# Altium footprint library Разъемы-mm.PcbLib: 96 footprints (part 2 of 6)
Each footprint in its own frame and in the unit in brackets; x right, y up, seen from the top. Pads: shape width x height; smd on the part's side, far side on the other; paste and mask are expansions set on the pad; w line width, h text height; cw(c..) or ccw(c..) is an arc to the next point about the centre after c.
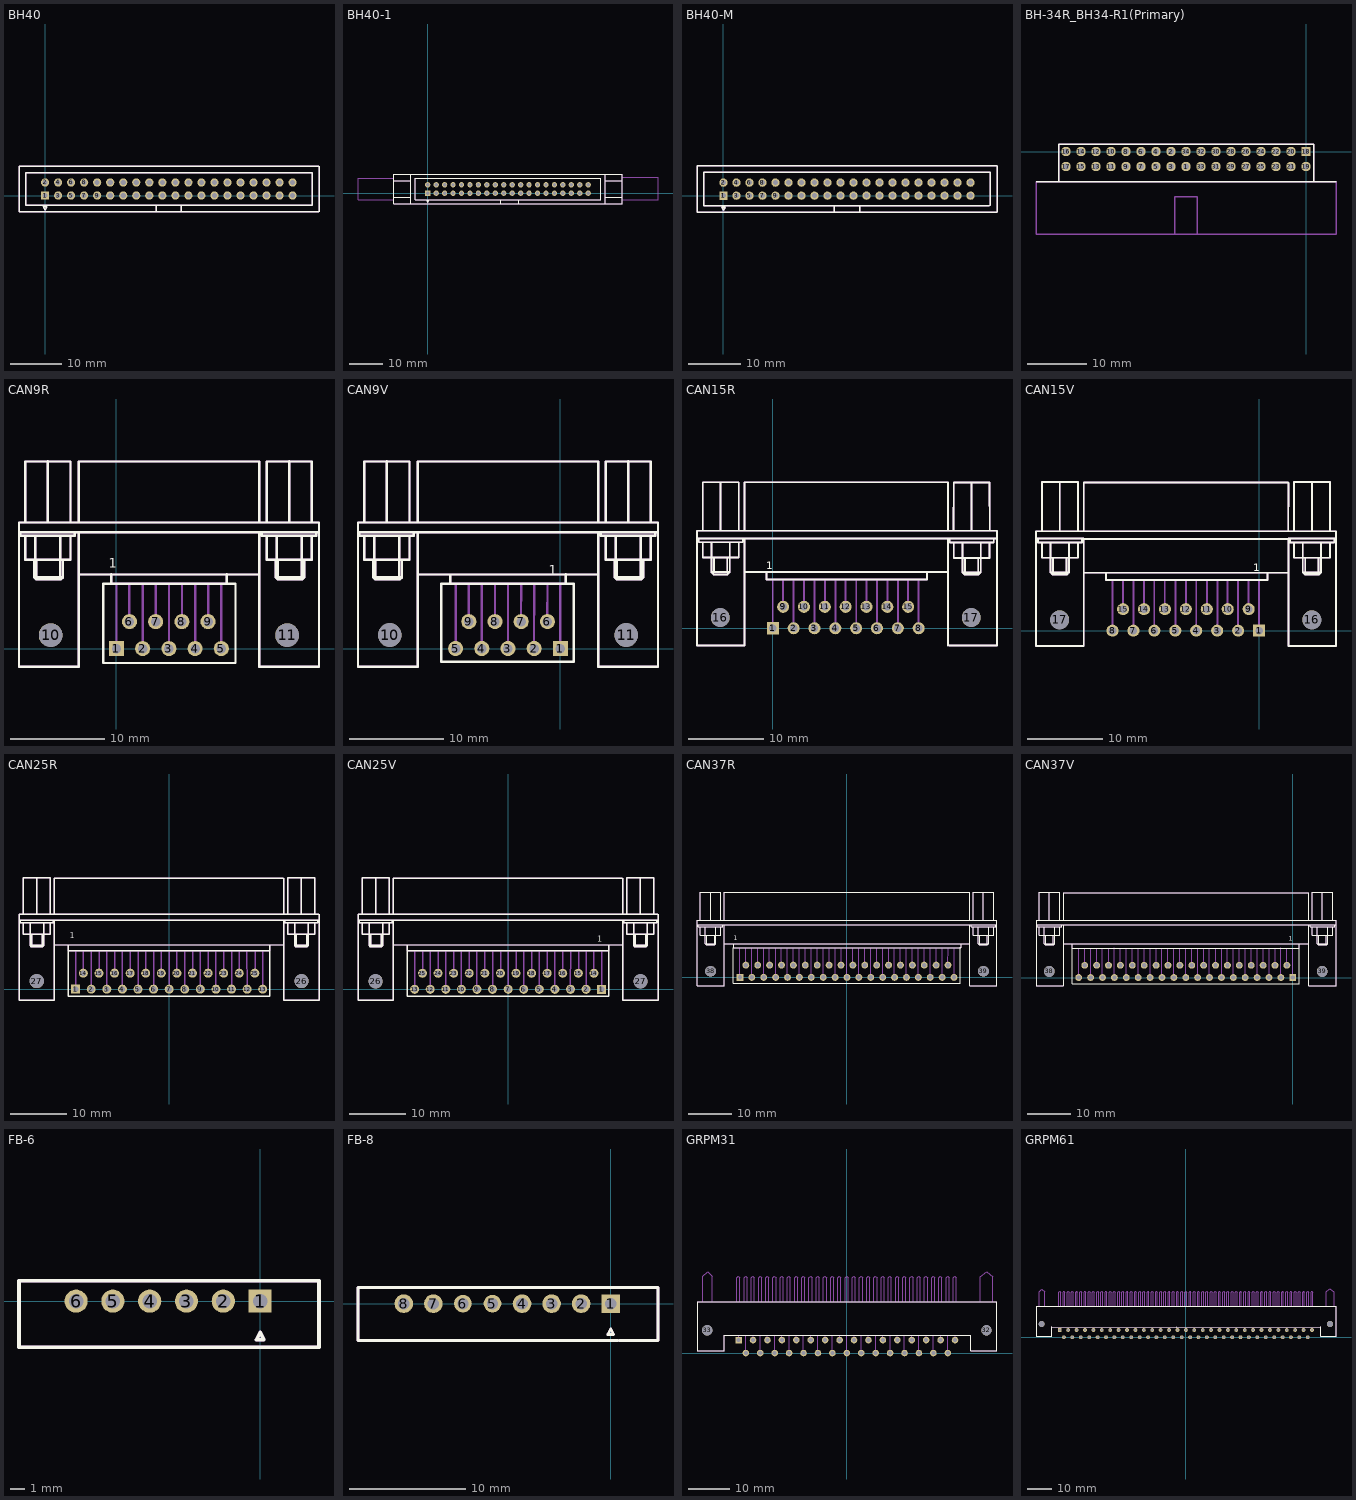
[diagram p1: the footprints below, top view; thin cyan lines are the x and y axes]

## BH40 [mm]
pads (40):
  rect 1.6x1.6 hole 1: 1(0,0)
  round 1.6 hole 1: 2(0,2.54) 3(2.54,0) 4(2.54,2.54) 5(5.08,0) 6(5.08,2.54) 7(7.62,0) 8(7.62,2.54) 9(10.16,0) 10(10.16,2.54) 11(12.7,0) 12(12.7,2.54) 13(15.24,0) 14(15.24,2.54) 15(17.78,0) 16(17.78,2.54) 17(20.32,0) 18(20.32,2.54) 19(22.86,0) 20(22.86,2.54) 21(25.4,0) 22(25.4,2.54) 23(27.94,0) 24(27.94,2.54) 25(30.48,0) 26(30.48,2.54) 27(33.02,0) 28(33.02,2.54) 29(35.56,0) 30(35.56,2.54) 31(38.1,0) 32(38.1,2.54) 33(40.64,0) 34(40.64,2.54) 35(43.18,0) 36(43.18,2.54) 37(45.72,0) 38(45.72,2.54) 39(48.26,0) 40(48.26,2.54)
Top Overlay:
  lines w0.25: 21.653,-3.175 21.653,-1.905 ; 26.543,-3.175 26.543,-1.905 ; 52.07,-1.905 51.117,-1.905 50.8,-1.905 1.905,-1.905 -3.81,-1.905 -3.81,4.445 17.145,4.445 41.275,4.445 52.07,4.445 ; 52.133,-1.905 52.133,4.445 ; 53.34,-3.175 40.64,-3.175 30.48,-3.175 -5.08,-3.175 -5.08,5.715 6.985,5.715 18.415,5.715 53.34,5.715 ; 53.404,-3.175 53.404,5.715 ; -0.318,-2.222 0.318,-2.222 0,-2.857 -0.318,-2.222
Mechanical 1:
  lines w0.25: 21.653,-3.175 21.653,-1.905 ; 26.543,-3.175 26.543,-1.905 ; 52.07,-1.905 51.117,-1.905 50.8,-1.905 1.905,-1.905 -3.81,-1.905 -3.81,4.445 17.145,4.445 41.275,4.445 52.07,4.445 ; 52.133,-1.905 52.133,4.445 ; 53.34,-3.175 40.64,-3.175 30.48,-3.175 -5.08,-3.175 -5.08,5.715 6.985,5.715 18.415,5.715 53.34,5.715 ; 53.404,-3.175 53.404,5.715 ; -0.318,-2.222 0.318,-2.222 0,-2.857 -0.318,-2.222
  text "2" at -3.136,1.694 h0.79
  text "1" at -3.136,-0.846 h0.79

## BH40-1 [mm]
pads (40):
  rect 1.6x1.6 hole 1: 1(0,0)
  round 1.6 hole 1: 2(0,2.54) 3(2.54,0) 4(2.54,2.54) 5(5.08,0) 6(5.08,2.54) 7(7.62,0) 8(7.62,2.54) 9(10.16,0) 10(10.16,2.54) 11(12.7,0) 12(12.7,2.54) 13(15.24,0) 14(15.24,2.54) 15(17.78,0) 16(17.78,2.54) 17(20.32,0) 18(20.32,2.54) 19(22.86,0) 20(22.86,2.54) 21(25.4,0) 22(25.4,2.54) 23(27.94,0) 24(27.94,2.54) 25(30.48,0) 26(30.48,2.54) 27(33.02,0) 28(33.02,2.54) 29(35.56,0) 30(35.56,2.54) 31(38.1,0) 32(38.1,2.54) 33(40.64,0) 34(40.64,2.54) 35(43.18,0) 36(43.18,2.54) 37(45.72,0) 38(45.72,2.54) 39(48.26,0) 40(48.26,2.54)
Top Overlay:
  lines w0.254: -10.16,-1.27 -5.08,-1.27 ; -10.16,3.81 -5.08,3.81 ; 21.907,-3.175 21.907,-1.905 ; 27.305,-3.175 27.305,-1.905 ; 52.08,-1.89 51.117,-1.905 50.8,-1.905 1.905,-1.905 -3.81,-1.905 -3.81,4.445 17.145,4.445 41.275,4.445 52.08,4.44 ; 52.092,-1.905 52.092,4.445 ; 53.045,5.715 53.362,5.715 ; 53.362,-1.27 58.442,-1.27 ; 53.362,3.81 58.442,3.81 ; 53.975,5.715 18.415,5.715 6.985,5.715 -5.08,5.715 ; 54.292,-3.175 40.64,-3.175 30.48,-3.175 -5.08,-3.175 ; -5.08,-3.175 -5.08,5.715 ; -5.08,-3.175 -10.16,-3.175 -10.16,5.715 -5.08,5.715 ; 53.362,5.715 58.442,5.715 58.442,-3.175 53.362,-3.175 53.362,5.715 ; -0.318,-2.222 0.318,-2.222 0,-2.857 -0.318,-2.222
Mechanical 1:
  lines w0.254: -10.16,-1.27 -5.08,-1.27 ; -10.16,3.81 -5.08,3.81 ; 21.907,-3.175 21.907,-1.905 ; 27.305,-3.175 27.305,-1.905 ; 52.08,-1.89 51.117,-1.905 50.8,-1.905 1.905,-1.905 -3.81,-1.905 -3.81,4.445 17.145,4.445 41.275,4.445 52.08,4.44 ; 52.092,-1.905 52.092,4.445 ; 53.045,5.715 53.362,5.715 ; 53.362,-1.27 58.442,-1.27 ; 53.362,3.81 58.442,3.81 ; 53.975,5.715 18.415,5.715 6.985,5.715 -5.08,5.715 ; 54.292,-3.175 40.64,-3.175 30.48,-3.175 -5.08,-3.175 ; -20.955,-1.905 -10.16,-1.905 -20.955,-1.905 ; -20.955,-1.905 -20.955,4.445 ; -20.955,-1.905 -20.955,4.445 ; -20.955,4.445 -10.16,4.445 -20.955,4.445 ; -5.08,-3.175 -5.08,5.715 ; -5.08,-3.175 -10.16,-3.175 -10.16,5.715 -5.08,5.715 ; 53.362,5.715 58.442,5.715 58.442,-3.175 53.362,-3.175 53.362,5.715 ; 69.237,-1.905 58.442,-1.905 69.237,-1.905 ; 69.237,-1.905 69.237,4.763 ; 69.237,-1.905 69.237,4.763 ; 69.237,4.763 58.442,4.763 69.237,4.763 ; -0.318,-2.222 0.318,-2.222 0,-2.857 -0.318,-2.222
  text "2" at -3.136,1.694 h0.79
  text "1" at -3.136,-0.846 h0.79

## BH40-M [mm]
pads (40):
  rect 1.6x1.6 hole 1: 1(0,0)
  round 1.6 hole 1: 2(0,2.5) 3(2.5,0) 4(2.5,2.5) 5(5,0) 6(5,2.5) 7(7.5,0) 8(7.5,2.5) 9(10,0) 10(10,2.5) 11(12.5,0) 12(12.5,2.5) 13(15,0) 14(15,2.5) 15(17.5,0) 16(17.5,2.5) 17(20,0) 18(20,2.5) 19(22.5,0) 20(22.5,2.5) 21(25,0) 22(25,2.5) 23(27.5,0) 24(27.5,2.5) 25(30,0) 26(30,2.5) 27(32.5,0) 28(32.5,2.5) 29(35,0) 30(35,2.5) 31(37.5,0) 32(37.5,2.5) 33(40,0) 34(40,2.5) 35(42.5,0) 36(42.5,2.5) 37(45,0) 38(45,2.5) 39(47.5,0) 40(47.5,2.5)
Top Overlay:
  lines w0.25: 21.344,-3.175 21.344,-1.905 ; 26.233,-3.175 26.233,-1.905 ; 51.3,4.45 41.275,4.445 17.145,4.445 -3.81,4.445 -3.81,-1.905 1.905,-1.905 50.8,-1.905 51.117,-1.905 51.31,-1.89 ; 51.313,-1.875 51.313,4.475 ; 52.54,5.72 18.415,5.715 6.985,5.715 -5.08,5.715 -5.08,-3.175 30.48,-3.175 40.64,-3.175 52.58,-3.17 ; 52.583,-3.175 52.583,5.715 ; -0.318,-2.222 0.318,-2.222 0,-2.857 -0.318,-2.222
Mechanical 1:
  lines w0.25: 21.344,-3.175 21.344,-1.905 ; 26.233,-3.175 26.233,-1.905 ; 51.3,4.45 41.275,4.445 17.145,4.445 -3.81,4.445 -3.81,-1.905 1.905,-1.905 50.8,-1.905 51.117,-1.905 51.31,-1.89 ; 51.313,-1.875 51.313,4.475 ; 52.54,5.72 18.415,5.715 6.985,5.715 -5.08,5.715 -5.08,-3.175 30.48,-3.175 40.64,-3.175 52.58,-3.17 ; 52.583,-3.175 52.583,5.715 ; -0.318,-2.222 0.318,-2.222 0,-2.857 -0.318,-2.222
  text "2" at -3.136,1.694 h0.79
  text "1" at -3.136,-0.846 h0.79

## BH-34R_BH34-R1(Primary) [mm]
pads (34):
  round 1.6 hole 1: 1(-20.32,-2.54) 2(-22.86,0) 3(-22.86,-2.54) 4(-25.4,0) 5(-25.4,-2.54) 6(-27.94,0) 7(-27.94,-2.54) 8(-30.48,0) 9(-30.48,-2.54) 10(-33.02,0) 11(-33.02,-2.54) 12(-35.56,0) 13(-35.56,-2.54) 14(-38.1,0) 15(-38.1,-2.54) 16(-40.64,0) 17(-40.64,-2.54) 19(0,-2.54) 20(-2.54,0) 21(-2.54,-2.54) 22(-5.08,0) 23(-5.08,-2.54) 24(-7.62,0) 25(-7.62,-2.54) 26(-10.16,0) 27(-10.16,-2.54) 28(-12.7,0) 29(-12.7,-2.54) 30(-15.24,0) 31(-15.24,-2.54) 32(-17.78,0) 33(-17.78,-2.54) 34(-20.32,0)
  rect 1.6x1.6 hole 1: 18(0,0)
Top Overlay:
  lines w0.25: -45.72,-5.08 5.08,-5.08 ; -41.91,-5.08 -41.91,1.27 1.27,1.27 1.27,-5.08
Mechanical 1:
  lines w0.25: -41.91,-5.08 -41.91,1.27 1.27,1.27 1.27,-5.08 ; -22.225,-13.97 -22.225,-7.62 -18.415,-7.62 -18.415,-13.97 ; -45.72,-13.97 5.08,-13.97 5.08,-5.08 -45.72,-5.08 -45.72,-13.97

## CAN9R [mm]
pads (11):
  rect 1.6x1.6 hole 1: 1(0,0)
  round 1.6 hole 1: 2(2.769,0) 3(5.537,0) 4(8.306,0) 5(11.074,0) 6(1.372,2.845) 7(4.14,2.845) 8(6.909,2.845) 9(9.677,2.845)
  round 2.5 hole 2.5: 10(-6.96,1.422) 11(18.034,1.422)
Top Overlay:
  lines w0.25: -10.301,12.305 -4.001,12.305 ; -10.148,12.305 -10.148,11.924 -4.408,11.924 -4.408,12.305 ; -9.64,11.924 -9.64,9.384 -4.865,9.384 -4.865,11.924 ; -9.64,13.321 -9.64,19.772 -4.865,19.772 -4.865,13.321 ; -8.675,9.358 -8.675,7.529 ; -8.573,9.358 -8.573,11.924 ; -8.446,7.529 -8.446,9.333 ; -7.253,13.321 -7.253,19.798 ; -6.084,9.358 -6.059,9.384 ; -5.932,7.555 -5.932,9.358 ; -5.932,9.333 -5.932,11.949 ; -5.652,9.384 -5.652,7.529 ; -4.001,7.834 15.099,7.834 ; -4.001,13.321 -4.001,19.772 15.099,19.772 15.099,13.321 ; -0.547,7.885 -0.547,6.869 11.645,6.869 11.645,7.885 ; -0.508,6.858 -1.397,6.858 -1.397,6.731 -1.397,-1.524 -0.635,-1.524 12.573,-1.524 12.573,-1.27 12.573,6.858 11.684,6.858 ; 15.353,12.305 15.353,11.924 21.094,11.924 21.094,12.305 ; 15.861,11.924 15.861,9.384 20.637,9.384 20.637,11.924 ; 15.861,13.321 15.861,19.772 20.637,19.772 20.637,13.321 ; 16.827,9.358 16.827,7.529 ; 16.928,9.358 16.928,11.924 ; 17.055,7.529 17.055,9.333 ; 18.249,13.321 18.249,19.798 ; 19.417,9.358 19.443,9.384 ; 19.57,7.555 19.57,9.358 ; 19.57,9.333 19.57,11.949 ; 19.849,9.384 19.849,7.529 ; 21.399,12.305 15.099,12.305 ; -8.675,7.529 -8.446,7.301 -5.881,7.301 -5.652,7.529 ; -8.675,7.529 -5.652,7.529 ; -4.001,12.305 15.099,12.305 ; -4.001,12.305 -4.001,-1.919 -10.301,-1.919 -10.301,13.321 21.399,13.321 21.399,-1.919 15.099,-1.919 15.099,12.305 ; 16.827,7.529 19.849,7.529 ; 16.827,7.529 17.055,7.301 19.621,7.301 19.849,7.529
  text "1" at -0.802,8.529 h1.02
Mechanical 1:
  lines w0.25: -10.301,12.305 -4.001,12.305 ; -10.148,12.305 -10.148,11.924 -4.408,11.924 -4.408,12.305 ; -9.64,11.924 -9.64,9.384 -4.865,9.384 -4.865,11.924 ; -9.64,13.321 -9.64,19.772 -4.865,19.772 -4.865,13.321 ; -8.675,9.358 -8.675,7.529 ; -8.573,9.358 -8.573,11.924 ; -8.446,7.529 -8.446,9.333 ; -7.253,13.321 -7.253,19.798 ; -6.084,9.358 -6.059,9.384 ; -5.932,7.555 -5.932,9.358 ; -5.932,9.333 -5.932,11.949 ; -5.652,9.384 -5.652,7.529 ; -4.001,7.834 15.099,7.834 ; -4.001,13.321 -4.001,19.772 15.099,19.772 15.099,13.321 ; -0.547,7.885 -0.547,6.869 11.645,6.869 11.645,7.885 ; 0.006,0.011 0.006,6.869 ; 1.363,2.937 1.363,6.874 ; 2.765,0.016 2.765,6.874 ; 4.147,2.927 4.147,6.864 ; 5.549,0.011 5.549,6.869 ; 6.921,2.922 6.921,6.859 ; 8.308,0.021 8.308,6.879 ; 9.68,2.937 9.68,6.874 ; 11.072,0.006 11.072,6.864 ; 15.353,12.305 15.353,11.924 21.094,11.924 21.094,12.305 ; 15.861,11.924 15.861,9.384 20.637,9.384 20.637,11.924 ; 15.861,13.321 15.861,19.772 20.637,19.772 20.637,13.321 ; 16.827,9.358 16.827,7.529 ; 16.928,9.358 16.928,11.924 ; 17.055,7.529 17.055,9.333 ; 18.249,13.321 18.249,19.798 ; 19.417,9.358 19.443,9.384 ; 19.57,7.555 19.57,9.358 ; 19.57,9.333 19.57,11.949 ; 19.849,9.384 19.849,7.529 ; 21.399,12.305 15.099,12.305 ; -8.675,7.529 -8.446,7.301 -5.881,7.301 -5.652,7.529 ; -8.675,7.529 -5.652,7.529 ; -4.001,12.305 15.099,12.305 ; -4.001,12.305 -4.001,-1.919 -10.301,-1.919 -10.301,13.321 21.399,13.321 21.399,-1.919 15.099,-1.919 15.099,12.305 ; 16.827,7.529 19.849,7.529 ; 16.827,7.529 17.055,7.301 19.621,7.301 19.849,7.529
  text "1" at -0.802,8.529 h1.02

## CAN9V [mm]
pads (11):
  rect 1.6x1.6 hole 1: 1(0,0)
  round 1.6 hole 1: 2(-2.769,0) 3(-5.537,0) 4(-8.306,0) 5(-11.074,0) 6(-1.372,2.845) 7(-4.14,2.845) 8(-6.909,2.845) 9(-9.677,2.845)
  round 2.5 hole 2.5: 10(-18.034,1.422) 11(6.96,1.422)
Top Overlay:
  lines w0.25: -21.385,12.297 -15.085,12.297 ; -21.232,12.297 -21.232,11.916 -15.492,11.916 -15.492,12.297 ; -20.724,11.916 -20.724,9.376 -15.949,9.376 -15.949,11.916 ; -20.724,13.313 -20.724,19.764 -15.949,19.764 -15.949,13.313 ; -19.759,9.35 -19.759,7.521 ; -19.657,9.35 -19.657,11.916 ; -19.53,7.521 -19.53,9.325 ; -18.337,13.313 -18.337,19.79 ; -17.168,9.35 -17.143,9.376 ; -17.016,7.547 -17.016,9.35 ; -17.016,9.325 -17.016,11.941 ; -16.736,9.376 -16.736,7.521 ; -15.085,7.826 4.015,7.826 ; -15.085,13.313 -15.085,19.764 4.015,19.764 4.015,13.313 ; -11.684,6.858 -12.573,6.858 -12.573,-1.397 -12.319,-1.397 1.397,-1.397 1.397,6.858 0.635,6.858 ; -11.635,7.791 -11.631,6.861 0.561,6.861 0.561,7.877 ; 4.269,12.297 4.269,11.916 10.01,11.916 10.01,12.297 ; 4.777,11.916 4.777,9.376 9.553,9.376 9.553,11.916 ; 4.777,13.313 4.777,19.764 9.553,19.764 9.553,13.313 ; 5.743,9.35 5.743,7.521 ; 5.844,9.35 5.844,11.916 ; 5.971,7.521 5.971,9.325 ; 7.165,13.313 7.165,19.79 ; 8.333,9.35 8.359,9.376 ; 8.486,7.547 8.486,9.35 ; 8.486,9.325 8.486,11.941 ; 8.765,9.376 8.765,7.521 ; 10.315,12.297 4.015,12.297 ; -19.759,7.521 -19.53,7.293 -16.965,7.293 -16.736,7.521 ; -19.759,7.521 -16.736,7.521 ; -15.085,12.297 4.015,12.297 ; -15.085,12.297 -15.085,-1.927 -21.385,-1.927 -21.385,13.313 10.315,13.313 10.315,-1.927 4.015,-1.927 4.015,12.297 ; 5.743,7.521 8.765,7.521 ; 5.743,7.521 5.971,7.293 8.537,7.293 8.765,7.521
  text "1" at -1.218,7.81 h1.02
Mechanical 1:
  lines w0.25: -21.385,12.297 -15.085,12.297 ; -21.232,12.297 -21.232,11.916 -15.492,11.916 -15.492,12.297 ; -20.724,11.916 -20.724,9.376 -15.949,9.376 -15.949,11.916 ; -20.724,13.313 -20.724,19.764 -15.949,19.764 -15.949,13.313 ; -19.759,9.35 -19.759,7.521 ; -19.657,9.35 -19.657,11.916 ; -19.53,7.521 -19.53,9.325 ; -18.337,13.313 -18.337,19.79 ; -17.168,9.35 -17.143,9.376 ; -17.016,7.547 -17.016,9.35 ; -17.016,9.325 -17.016,11.941 ; -16.736,9.376 -16.736,7.521 ; -15.085,7.826 4.015,7.826 ; -15.085,13.313 -15.085,19.764 4.015,19.764 4.015,13.313 ; -11.635,7.791 -11.631,6.861 0.561,6.861 0.561,7.877 ; -11.074,0.138 -11.071,6.845 ; -9.681,3.02 -9.676,6.851 ; -8.304,0.122 -8.297,6.857 ; -6.912,3.02 -6.908,6.847 ; -5.535,0.122 -5.535,6.861 ; -4.158,3.02 -4.15,6.867 ; -2.781,0.106 -2.777,6.855 ; -1.372,2.972 -1.366,6.867 ; -0.011,0.122 -0.008,6.857 ; 4.269,12.297 4.269,11.916 10.01,11.916 10.01,12.297 ; 4.777,11.916 4.777,9.376 9.553,9.376 9.553,11.916 ; 4.777,13.313 4.777,19.764 9.553,19.764 9.553,13.313 ; 5.743,9.35 5.743,7.521 ; 5.844,9.35 5.844,11.916 ; 5.971,7.521 5.971,9.325 ; 7.165,13.313 7.165,19.79 ; 8.333,9.35 8.359,9.376 ; 8.486,7.547 8.486,9.35 ; 8.486,9.325 8.486,11.941 ; 8.765,9.376 8.765,7.521 ; 10.315,12.297 4.015,12.297 ; -19.759,7.521 -19.53,7.293 -16.965,7.293 -16.736,7.521 ; -19.759,7.521 -16.736,7.521 ; -15.085,12.297 4.015,12.297 ; -15.085,12.297 -15.085,-1.927 -21.385,-1.927 -21.385,13.313 10.315,13.313 10.315,-1.927 4.015,-1.927 4.015,12.297 ; 5.743,7.521 8.765,7.521 ; 5.743,7.521 5.971,7.293 8.537,7.293 8.765,7.521
  text "1" at -1.218,7.81 h1.02

## CAN15R [mm]
pads (17):
  rect 1.6x1.6 hole 1: 1(0,0)
  round 1.6 hole 1: 2(2.769,0) 3(5.537,0) 4(8.306,0) 5(11.074,0) 6(13.843,0) 7(16.612,0) 8(19.38,0) 9(1.372,2.845) 10(4.14,2.845) 11(6.909,2.845) 12(9.677,2.845) 13(12.446,2.845) 14(15.215,2.845) 15(17.983,2.845)
  round 2.5 hole 2.5: 16(-6.985,1.422) 17(26.365,1.422)
Top Overlay:
  lines w0.25: -10.07,12.95 29.786,12.949 29.786,-2.291 23.487,-2.291 ; -10.066,11.933 -3.767,11.933 -3.767,-2.291 -10.066,-2.291 -10.066,12.949 ; -9.837,11.933 -9.837,11.425 -3.995,11.425 -3.995,11.933 ; -9.304,11.425 -9.304,9.393 -4.529,9.393 -4.529,11.425 ; -9.304,12.949 -9.304,19.401 -4.529,19.401 -4.529,12.949 ; -8.161,11.425 -8.161,7.463 ; -7.831,7.463 -7.831,9.393 ; -6.942,12.949 -6.94,19.37 ; -6.053,7.463 -6.053,9.393 ; -5.722,11.425 -5.722,7.463 ; -4.047,11.933 23.487,11.933 29.786,11.933 ; -3.767,12.949 -3.767,19.401 ; -3.76,19.39 23.26,19.39 ; -3.74,7.46 23.26,7.46 ; -0.85,7.46 -0.846,6.498 20.49,6.498 20.48,7.43 ; 23.277,-2.331 23.277,11.893 ; 23.277,19.361 23.28,13 ; 23.506,11.893 23.506,11.385 29.348,11.385 29.348,11.893 ; 24.03,12.97 24.039,19.361 28.814,19.361 28.82,13.02 ; 24.039,11.385 24.039,9.353 28.814,9.353 28.814,11.385 ; 25.182,11.385 25.182,7.423 ; 25.512,7.423 25.512,9.353 ; 26.39,19.35 26.401,13.059 ; 27.29,7.423 27.29,9.353 ; 27.62,11.385 27.62,7.423 ; -8.161,7.463 -7.856,7.158 -6.027,7.158 -5.722,7.463 ; -8.161,7.463 -5.722,7.463 ; 25.182,7.423 27.62,7.423 ; 25.182,7.423 25.487,7.118 27.316,7.118 27.62,7.423
  text "1" at -0.843,7.827 h1.02
Top Solder:
  lines w0.25: -0.762,6.477 -1.524,6.477 -1.524,-1.524 20.955,-1.524 20.955,6.477 20.574,6.477
Mechanical 1:
  lines w0.25: -10.07,12.95 29.786,12.949 29.786,-2.291 23.487,-2.291 ; -10.066,11.933 -3.767,11.933 -3.767,-2.291 -10.066,-2.291 -10.066,12.949 ; -9.837,11.933 -9.837,11.425 -3.995,11.425 -3.995,11.933 ; -9.304,11.425 -9.304,9.393 -4.529,9.393 -4.529,11.425 ; -9.304,12.949 -9.304,19.401 -4.529,19.401 -4.529,12.949 ; -8.161,11.425 -8.161,7.463 ; -7.831,7.463 -7.831,9.393 ; -6.942,12.949 -6.94,19.37 ; -6.053,7.463 -6.053,9.393 ; -5.722,11.425 -5.722,7.463 ; -4.047,11.933 23.487,11.933 29.786,11.933 ; -3.767,12.949 -3.767,19.401 ; -3.76,19.39 23.26,19.39 ; -3.74,7.46 23.26,7.46 ; -0.85,7.46 -0.846,6.498 20.49,6.498 20.48,7.43 ; -0.01,0.254 -0.01,6.477 ; 1.36,3.05 1.36,6.467 ; 2.76,0.259 2.76,6.482 ; 4.13,3.05 4.13,6.467 ; 5.54,0.249 5.54,6.472 ; 6.92,3.05 6.92,6.467 ; 8.315,0.264 8.315,6.487 ; 9.68,3.07 9.68,6.487 ; 11.08,0.264 11.08,6.487 ; 12.44,3.05 12.44,6.467 ; 13.85,0.254 13.85,6.477 ; 15.22,3.09 15.22,6.507 ; 16.62,0.254 16.62,6.477 ; 17.98,3.08 17.98,6.497 ; 19.38,0.243 19.38,6.466 ; 23.277,-2.331 23.277,11.893 ; 23.277,19.361 23.28,13 ; 23.506,11.893 23.506,11.385 29.348,11.385 29.348,11.893 ; 24.03,12.97 24.039,19.361 28.814,19.361 28.82,13.02 ; 24.039,11.385 24.039,9.353 28.814,9.353 28.814,11.385 ; 25.182,11.385 25.182,7.423 ; 25.512,7.423 25.512,9.353 ; 26.39,19.35 26.401,13.059 ; 27.29,7.423 27.29,9.353 ; 27.62,11.385 27.62,7.423 ; -8.161,7.463 -5.722,7.463 ; -8.161,7.463 -7.856,7.158 -6.027,7.158 -5.722,7.463 ; 25.182,7.423 27.62,7.423 ; 25.182,7.423 25.487,7.118 27.316,7.118 27.62,7.423
  text "1" at -0.763,7.807 h1.02

## CAN15V [mm]
pads (17):
  rect 1.6x1.6 hole 1: 1(0,0)
  round 1.6 hole 1: 2(-2.769,0) 3(-5.537,0) 4(-8.306,0) 5(-11.074,0) 6(-13.843,0) 7(-16.612,0) 8(-19.38,0) 9(-1.372,2.845) 10(-4.14,2.845) 11(-6.909,2.845) 12(-9.677,2.845) 13(-12.446,2.845) 14(-15.215,2.845) 15(-17.983,2.845)
  round 2.5 hole 2.5: 16(6.985,1.422) 17(-26.365,1.422)
Top Overlay:
  lines w0.25: -29.498,13.09 -29.481,-2.047 -23.182,-2.047 -23.182,12.177 -29.481,12.177 ; -29.484,13.147 10.179,13.132 ; -29.252,12.177 -29.252,11.669 -23.41,11.669 -23.41,12.177 ; -28.719,11.669 -28.719,9.637 -23.944,9.637 -23.944,11.669 ; -28.719,13.193 -28.719,19.645 -23.944,19.645 -23.944,13.193 ; -27.576,11.669 -27.576,7.707 ; -27.246,7.707 -27.246,9.637 ; -26.357,13.193 -26.357,19.67 ; -25.468,7.707 -25.468,9.637 ; -25.137,11.669 -25.137,7.707 ; -23.422,12.129 4.112,12.129 ; -23.182,13.193 -23.176,19.61 ; -23.18,7.66 3.862,7.66 ; -23.162,19.595 3.87,19.595 ; -20.222,6.731 -20.221,7.636 ; -20.221,6.694 1.115,6.694 1.115,7.66 ; 3.87,13.161 3.871,19.561 ; 4.1,12.177 4.1,11.669 9.942,11.669 9.942,12.177 ; 4.633,11.669 4.633,9.637 9.408,9.637 9.408,11.669 ; 4.633,13.193 4.633,19.645 9.408,19.645 9.408,13.193 ; 5.776,11.669 5.776,7.707 ; 6.106,7.707 6.106,9.637 ; 6.995,13.193 6.995,19.67 ; 7.884,7.707 7.884,9.637 ; 8.214,11.669 8.214,7.707 ; 10.165,13.118 10.17,-2.047 3.871,-2.047 3.871,12.177 10.17,12.177 ; -27.576,7.707 -25.137,7.707 ; -27.576,7.707 -27.271,7.402 -25.442,7.402 -25.137,7.707 ; 5.776,7.707 8.214,7.707 ; 5.776,7.707 6.081,7.402 7.91,7.402 8.214,7.707
  text "1" at -0.754,7.874 h1.02
Mechanical 1:
  lines w0.25: -29.498,13.09 -29.481,-2.047 -23.182,-2.047 -23.182,12.177 -29.481,12.177 ; -29.484,13.147 10.179,13.132 ; -29.252,12.177 -29.252,11.669 -23.41,11.669 -23.41,12.177 ; -28.719,11.669 -28.719,9.637 -23.944,9.637 -23.944,11.669 ; -28.719,13.193 -28.719,19.645 -23.944,19.645 -23.944,13.193 ; -27.576,11.669 -27.576,7.707 ; -27.246,7.707 -27.246,9.637 ; -26.357,13.193 -26.357,19.67 ; -25.468,7.707 -25.468,9.637 ; -25.137,11.669 -25.137,7.707 ; -23.422,12.129 4.112,12.129 ; -23.182,13.193 -23.176,19.61 ; -23.18,7.66 3.862,7.66 ; -23.162,19.595 3.87,19.595 ; -20.222,6.731 -20.221,7.636 ; -20.221,6.694 1.115,6.694 1.115,7.66 ; -19.393,0.48 -19.393,6.703 ; -17.979,6.673 -17.977,3.164 ; -16.615,0.455 -16.615,6.678 ; -15.215,6.688 -15.213,3.179 ; -13.852,0.47 -13.852,6.693 ; -12.466,6.688 -12.464,3.179 ; -11.07,0.42 -11.07,6.643 ; -9.673,6.688 -9.671,3.179 ; -8.297,0.435 -8.297,6.658 ; -6.894,6.688 -6.892,3.179 ; -5.519,0.45 -5.519,6.673 ; -4.159,6.703 -4.157,3.194 ; -2.77,0.465 -2.77,6.688 ; -1.381,6.688 -1.379,3.179 ; 0.007,0.459 0.007,6.682 ; 3.87,13.161 3.871,19.561 ; 4.1,12.177 4.1,11.669 9.942,11.669 9.942,12.177 ; 4.633,11.669 4.633,9.637 9.408,9.637 9.408,11.669 ; 4.633,13.193 4.633,19.645 9.408,19.645 9.408,13.193 ; 5.776,11.669 5.776,7.707 ; 6.106,7.707 6.106,9.637 ; 6.995,13.193 6.995,19.67 ; 7.884,7.707 7.884,9.637 ; 8.214,11.669 8.214,7.707 ; 10.165,13.118 10.17,-2.047 3.871,-2.047 3.871,12.177 10.17,12.177 ; -27.576,7.707 -25.137,7.707 ; -27.576,7.707 -27.271,7.402 -25.442,7.402 -25.137,7.707 ; 5.776,7.707 8.214,7.707 ; 5.776,7.707 6.081,7.402 7.91,7.402 8.214,7.707
  text "1" at -0.754,7.874 h1.02

## CAN25R [mm]
pads (27):
  rect 1.6x1.6 hole 1: 1(-16.612,0.017)
  round 1.6 hole 1: 2(-13.843,0.017) 3(-11.075,0.017) 4(-8.306,0.017) 5(-5.538,0.017) 6(-2.769,0.017) 7(0,0.017) 8(2.768,0.017) 9(5.537,0.017) 10(8.305,0.017) 11(11.074,0.017) 12(13.843,0.017) 13(16.611,0.017) 14(-15.24,2.862) 15(-12.472,2.862) 16(-9.703,2.862) 17(-6.935,2.862) 18(-4.166,2.862) 19(-1.397,2.862) 20(1.371,2.862) 21(4.14,2.862) 22(6.908,2.862) 23(9.677,2.862) 24(12.446,2.862) 25(15.214,2.862)
  round 2.5 hole 2.5: 26(23.52,1.439) 27(-23.521,1.439)
Top Overlay:
  lines w0.25: -26.672,12.294 -20.372,12.294 -20.372,-1.93 -26.672,-1.93 -26.672,13.31 ; -26.67,13.31 26.577,13.329 ; -26.494,12.294 -26.494,11.786 -20.55,11.786 -20.55,12.294 ; -25.91,11.786 -25.91,9.754 -21.134,9.754 -21.134,11.786 ; -24.716,11.786 -24.716,7.823 ; -24.436,7.823 -24.436,9.754 ; -22.557,7.823 -22.557,9.754 ; -22.277,11.786 -22.277,7.823 ; -20.872,12.294 20.936,12.294 ; -20.39,19.76 20.3,19.76 ; -20.372,13.31 -20.372,19.761 ; -20.37,7.87 20.34,7.83 ; -17.926,7.874 -17.926,6.858 17.888,6.858 17.888,7.874 ; -17.907,6.858 -17.907,-1.27 -11.684,-1.27 17.907,-1.27 17.907,6.858 ; 20.311,13.31 20.311,19.761 ; 20.489,12.294 20.489,11.786 26.432,11.786 26.432,12.294 ; 21.073,11.786 21.073,9.754 25.848,9.754 25.848,11.786 ; 21.073,13.31 21.073,19.787 25.848,19.787 25.848,13.31 ; 22.267,11.786 22.267,7.823 ; 22.546,7.823 22.546,9.754 ; 23.461,13.31 23.461,19.761 ; 24.426,7.823 24.426,9.754 ; 24.705,11.786 24.705,7.823 ; 26.61,12.294 20.311,12.294 20.311,-1.93 26.61,-1.93 26.61,13.31 ; -25.91,19.787 -21.134,19.787 ; -25.91,19.787 -21.134,19.787 ; -25.91,19.787 -25.91,13.31 -25.91,19.787 ; -24.716,7.823 -22.277,7.823 ; -24.716,7.823 -24.487,7.595 -22.506,7.595 -22.277,7.823 ; -21.134,19.787 -21.134,13.31 -21.134,19.787 ; 22.267,7.823 24.705,7.823 ; 22.267,7.823 22.495,7.595 24.477,7.595 24.705,7.823 ; -23.522,13.31 -23.522,19.761 -23.522,13.31
  text "1" at -17.673,9.077 h1.02
Mechanical 1:
  lines w0.25: -26.672,12.294 -20.372,12.294 -20.372,-1.93 -26.672,-1.93 -26.672,13.31 ; -26.67,13.31 26.577,13.329 ; -26.494,12.294 -26.494,11.786 -20.55,11.786 -20.55,12.294 ; -25.91,11.786 -25.91,9.754 -21.134,9.754 -21.134,11.786 ; -24.716,11.786 -24.716,7.823 ; -24.436,7.823 -24.436,9.754 ; -22.557,7.823 -22.557,9.754 ; -22.277,11.786 -22.277,7.823 ; -20.872,12.294 20.936,12.294 ; -20.39,19.76 20.3,19.76 ; -20.372,13.31 -20.372,19.761 ; -20.37,7.87 20.34,7.83 ; -17.926,7.874 -17.926,6.858 17.888,6.858 17.888,7.874 ; -16.63,0.307 -16.624,6.841 ; -15.239,6.827 -15.238,3.188 ; -13.855,0.323 -13.849,6.857 ; -12.46,6.827 -12.459,3.188 ; -11.076,0.323 -11.07,6.857 ; -9.696,3.188 -9.697,6.827 ; -8.313,0.323 -8.307,6.857 ; -6.918,6.827 -6.917,3.188 ; -5.534,0.323 -5.528,6.857 ; -4.155,6.857 -4.154,3.218 ; -2.771,0.323 -2.765,6.857 ; -1.377,6.857 -1.376,3.218 ; -0.008,0.323 -0.002,6.857 ; 1.372,3.218 1.371,6.857 ; 2.755,0.322 2.761,6.856 ; 4.15,6.842 4.151,3.203 ; 5.534,0.338 5.54,6.872 ; 6.913,6.857 6.914,3.218 ; 8.297,0.353 8.303,6.887 ; 9.692,3.182 9.691,6.821 ; 11.075,0.317 11.081,6.851 ; 12.446,6.832 12.45,3.141 ; 13.818,6.832 13.824,0.287 ; 15.245,6.858 15.249,3.167 ; 16.617,6.858 16.623,0.313 ; 20.311,13.31 20.311,19.761 ; 20.489,12.294 20.489,11.786 26.432,11.786 26.432,12.294 ; 21.073,11.786 21.073,9.754 25.848,9.754 25.848,11.786 ; 21.073,13.31 21.073,19.787 25.848,19.787 25.848,13.31 ; 22.267,11.786 22.267,7.823 ; 22.546,7.823 22.546,9.754 ; 23.461,13.31 23.461,19.761 ; 24.426,7.823 24.426,9.754 ; 24.705,11.786 24.705,7.823 ; 26.61,12.294 20.311,12.294 20.311,-1.93 26.61,-1.93 26.61,13.31 ; -25.91,19.787 -21.134,19.787 ; -25.91,19.787 -21.134,19.787 ; -25.91,19.787 -25.91,13.31 -25.91,19.787 ; -24.716,7.823 -22.277,7.823 ; -24.716,7.823 -24.487,7.595 -22.506,7.595 -22.277,7.823 ; -21.134,19.787 -21.134,13.31 -21.134,19.787 ; 22.267,7.823 24.705,7.823 ; 22.267,7.823 22.495,7.595 24.477,7.595 24.705,7.823 ; -23.522,13.31 -23.522,19.761 -23.522,13.31
  text "1" at -17.654,9.077 h1.02

## CAN25V [mm]
pads (27):
  rect 1.6x1.6 hole 1: 1(16.606,-0.004)
  round 1.6 hole 1: 2(13.837,-0.004) 3(11.069,-0.004) 4(8.3,-0.004) 5(5.532,-0.004) 6(2.763,-0.004) 7(-0.006,-0.004) 8(-2.774,-0.004) 9(-5.543,-0.004) 10(-8.311,-0.004) 11(-11.08,-0.004) 12(-13.849,-0.004) 13(-16.617,-0.004) 14(15.234,2.841) 15(12.466,2.841) 16(9.697,2.841) 17(6.929,2.841) 18(4.16,2.841) 19(1.391,2.841) 20(-1.377,2.841) 21(-4.146,2.841) 22(-6.914,2.841) 23(-9.683,2.841) 24(-12.452,2.841) 25(-15.22,2.841)
  round 2.5 hole 2.5: 26(-23.526,1.418) 27(23.515,1.418)
Top Overlay:
  lines w0.25: -26.672,12.294 -20.372,12.294 -20.372,-1.93 -26.672,-1.93 -26.672,13.31 ; -26.67,13.31 26.577,13.329 ; -26.494,12.294 -26.494,11.786 -20.55,11.786 -20.55,12.294 ; -25.91,11.786 -25.91,9.754 -21.134,9.754 -21.134,11.786 ; -24.716,11.786 -24.716,7.823 ; -24.436,7.823 -24.436,9.754 ; -22.557,7.823 -22.557,9.754 ; -22.277,11.786 -22.277,7.823 ; -20.872,12.294 20.936,12.294 ; -20.39,19.76 20.3,19.76 ; -20.372,13.31 -20.372,19.761 ; -20.37,7.87 20.34,7.83 ; -17.926,7.874 -17.926,6.858 17.888,6.858 17.888,7.874 ; -17.907,6.858 -17.907,-1.27 -10.922,-1.27 17.907,-1.27 17.907,6.858 ; 20.311,13.31 20.311,19.761 ; 20.489,12.294 20.489,11.786 26.432,11.786 26.432,12.294 ; 21.073,11.786 21.073,9.754 25.848,9.754 25.848,11.786 ; 21.073,13.31 21.073,19.787 25.848,19.787 25.848,13.31 ; 22.267,11.786 22.267,7.823 ; 22.546,7.823 22.546,9.754 ; 23.461,13.31 23.461,19.761 ; 24.426,7.823 24.426,9.754 ; 24.705,11.786 24.705,7.823 ; 26.61,12.294 20.311,12.294 20.311,-1.93 26.61,-1.93 26.61,13.31 ; -25.91,19.787 -21.134,19.787 ; -25.91,19.787 -21.134,19.787 ; -25.91,19.787 -25.91,13.31 -25.91,19.787 ; -24.716,7.823 -22.277,7.823 ; -24.716,7.823 -24.487,7.595 -22.506,7.595 -22.277,7.823 ; -21.134,19.787 -21.134,13.31 -21.134,19.787 ; 22.267,7.823 24.705,7.823 ; 22.267,7.823 22.495,7.595 24.477,7.595 24.705,7.823 ; -23.522,13.31 -23.522,19.761 -23.522,13.31
  text "1" at 15.811,8.457 h1.02
Mechanical 1:
  lines w0.25: -26.672,12.294 -20.372,12.294 -20.372,-1.93 -26.672,-1.93 -26.672,13.31 ; -26.67,13.31 26.577,13.329 ; -26.494,12.294 -26.494,11.786 -20.55,11.786 -20.55,12.294 ; -25.91,11.786 -25.91,9.754 -21.134,9.754 -21.134,11.786 ; -24.716,11.786 -24.716,7.823 ; -24.436,7.823 -24.436,9.754 ; -22.557,7.823 -22.557,9.754 ; -22.277,11.786 -22.277,7.823 ; -20.872,12.294 20.936,12.294 ; -20.39,19.76 20.3,19.76 ; -20.372,13.31 -20.372,19.761 ; -20.37,7.87 20.34,7.83 ; -17.926,7.874 -17.926,6.858 17.888,6.858 17.888,7.874 ; -16.62,0.361 -16.616,6.831 ; -15.192,6.842 -15.191,3.275 ; -13.844,0.388 -13.84,6.858 ; -12.433,6.826 -12.432,3.259 ; -11.085,0.372 -11.081,6.842 ; -9.658,6.826 -9.657,3.259 ; -8.31,0.372 -8.306,6.842 ; -6.899,6.826 -6.898,3.259 ; -5.551,0.372 -5.547,6.842 ; -4.124,6.842 -4.123,3.275 ; -2.776,0.388 -2.772,6.858 ; -1.349,6.842 -1.348,3.275 ; -0.001,0.388 0.003,6.858 ; 1.394,6.842 1.395,3.275 ; 2.742,0.388 2.746,6.858 ; 4.185,6.826 4.186,3.259 ; 5.533,0.372 5.537,6.842 ; 6.944,6.826 6.945,3.259 ; 8.292,0.372 8.296,6.842 ; 9.719,6.826 9.72,3.259 ; 11.067,0.372 11.071,6.842 ; 12.494,6.826 12.495,3.259 ; 13.842,0.372 13.846,6.842 ; 15.236,6.826 15.237,3.259 ; 16.584,0.372 16.588,6.842 ; 20.311,13.31 20.311,19.761 ; 20.489,12.294 20.489,11.786 26.432,11.786 26.432,12.294 ; 21.073,11.786 21.073,9.754 25.848,9.754 25.848,11.786 ; 21.073,13.31 21.073,19.787 25.848,19.787 25.848,13.31 ; 22.267,11.786 22.267,7.823 ; 22.546,7.823 22.546,9.754 ; 23.461,13.31 23.461,19.761 ; 24.426,7.823 24.426,9.754 ; 24.705,11.786 24.705,7.823 ; 26.61,12.294 20.311,12.294 20.311,-1.93 26.61,-1.93 26.61,13.31 ; -25.91,19.787 -21.134,19.787 ; -25.91,19.787 -21.134,19.787 ; -25.91,19.787 -25.91,13.31 -25.91,19.787 ; -24.716,7.823 -22.277,7.823 ; -24.716,7.823 -24.487,7.595 -22.506,7.595 -22.277,7.823 ; -21.134,19.787 -21.134,13.31 -21.134,19.787 ; 22.267,7.823 24.705,7.823 ; 22.267,7.823 22.495,7.595 24.477,7.595 24.705,7.823 ; -23.522,13.31 -23.522,19.761 -23.522,13.31
  text "1" at 15.811,8.457 h1.02

## CAN37R [mm]
pads (39):
  rect 1.6x1.6 hole 1: 1(-24.917,0)
  round 1.6 hole 1: 2(-22.148,0) 3(-19.38,0) 4(-16.611,0) 5(-13.843,0) 6(-11.074,0) 7(-8.305,0) 8(-5.537,0) 9(-2.768,0) 10(0,0) 11(2.769,0) 12(5.538,0) 13(8.306,0) 14(11.075,0) 15(13.843,0) 16(16.612,0) 17(19.381,0) 18(22.149,0) 19(24.918,0) 20(-23.545,2.845) 21(-20.777,2.845) 22(-18.008,2.845) 23(-15.24,2.845) 24(-12.471,2.845) 25(-9.702,2.845) 26(-6.934,2.845) 27(-4.165,2.845) 28(-1.397,2.845) 29(1.372,2.845) 30(4.141,2.845) 31(6.909,2.845) 32(9.678,2.845) 33(12.446,2.845) 34(15.215,2.845) 35(17.984,2.845) 36(20.752,2.845) 37(23.521,2.845)
  round 2.5 hole 2.5: 38(-31.75,1.422) 39(31.75,1.422)
Top Overlay:
  lines w0.25: -34.908,12.306 34.918,12.292 ; -34.908,13.333 34.918,13.332 ; -34.882,13.31 -34.882,-1.93 -28.583,-1.93 -28.583,12.294 ; -34.628,12.294 -34.628,11.786 -28.862,11.786 -28.862,12.294 ; -34.12,11.786 -34.12,9.754 -29.345,9.754 -29.345,11.786 ; -34.12,13.31 -34.12,19.761 -29.345,19.761 -29.345,13.31 ; -32.952,11.786 -32.952,7.823 ; -32.647,7.823 -32.647,9.754 ; -31.758,13.31 -31.758,19.761 ; -30.818,7.823 -30.818,9.754 ; -30.539,11.786 -30.539,7.823 ; -29.337,12.294 29.388,12.294 ; -28.597,7.82 28.598,7.832 ; -28.597,19.796 28.598,19.772 ; -28.583,13.31 -28.583,19.761 ; -26.416,6.858 -26.416,-1.397 -19.558,-1.397 26.416,-1.397 26.416,-1.27 26.416,6.985 ; -26.39,7.82 -26.391,6.858 26.441,6.858 26.44,7.791 ; 28.615,12.294 28.615,-1.93 34.914,-1.93 34.914,13.31 ; 28.615,13.31 28.615,19.761 ; 28.869,12.294 28.869,11.786 34.635,11.786 34.635,12.294 ; 29.377,11.786 29.377,9.754 34.152,9.754 34.152,11.786 ; 29.377,13.31 29.377,19.761 34.152,19.761 34.152,13.31 ; 30.545,11.786 30.545,7.823 ; 30.85,7.823 30.85,9.754 ; 31.739,13.31 31.739,19.761 ; 32.679,7.823 32.679,9.754 ; 32.958,11.786 32.958,7.823 ; -32.952,7.823 -30.539,7.823 ; -32.952,7.823 -32.698,7.569 -30.793,7.569 -30.539,7.823 ; 30.545,7.823 32.958,7.823 ; 30.545,7.823 30.799,7.569 32.704,7.569 32.958,7.823
  text "1" at -26.316,8.645 h1.02
Mechanical 1:
  lines w0.25: -34.908,12.306 34.918,12.292 ; -34.908,13.333 34.918,13.332 ; -34.882,13.31 -34.882,-1.93 -28.583,-1.93 -28.583,12.294 ; -34.628,12.294 -34.628,11.786 -28.862,11.786 -28.862,12.294 ; -34.12,11.786 -34.12,9.754 -29.345,9.754 -29.345,11.786 ; -34.12,13.31 -34.12,19.761 -29.345,19.761 -29.345,13.31 ; -32.952,11.786 -32.952,7.823 ; -32.647,7.823 -32.647,9.754 ; -31.758,13.31 -31.758,19.761 ; -30.818,7.823 -30.818,9.754 ; -30.539,11.786 -30.539,7.823 ; -29.337,12.294 29.388,12.294 ; -28.597,7.82 28.598,7.832 ; -28.597,19.796 28.598,19.772 ; -28.583,13.31 -28.583,19.761 ; -26.39,7.82 -26.391,6.858 26.441,6.858 26.44,7.791 ; -24.911,0.23 -24.911,6.838 ; -23.561,3 -23.558,6.838 ; -22.181,0.23 -22.181,6.838 ; -20.771,2.979 -20.768,6.817 ; -19.351,0.27 -19.351,6.878 ; -18.041,3 -18.038,6.838 ; -16.621,0.27 -16.621,6.878 ; -15.251,3.02 -15.248,6.858 ; -13.85,0.25 -13.85,6.858 ; -12.461,3.02 -12.458,6.858 ; -11.08,0.25 -11.08,6.858 ; -9.691,3 -9.688,6.838 ; -8.29,0.23 -8.29,6.838 ; -6.9,3.02 -6.897,6.858 ; -5.5,0.25 -5.5,6.858 ; -4.13,3.02 -4.127,6.858 ; -2.75,0.25 -2.75,6.858 ; -1.38,3.02 -1.377,6.858 ; 0,0.25 0,6.858 ; 1.37,3.02 1.373,6.858 ; 2.75,0.25 2.75,6.858 ; 4.12,3.02 4.123,6.858 ; 5.54,0.25 5.54,6.858 ; 6.911,3.02 6.914,6.858 ; 8.31,0.25 8.31,6.858 ; 9.68,3 9.683,6.838 ; 11.06,0.25 11.06,6.858 ; 12.431,3.02 12.434,6.858 ; 13.851,0.25 13.851,6.858 ; 15.22,3 15.223,6.838 ; 16.601,0.231 16.601,6.839 ; 17.991,3.02 17.994,6.858 ; 19.371,0.27 19.371,6.878 ; 20.781,3.02 20.784,6.858 ; 22.162,0.25 22.162,6.858 ; 23.511,3 23.514,6.838 ; 24.911,0.25 24.911,6.858 ; 28.615,12.294 28.615,-1.93 34.914,-1.93 34.914,13.31 ; 28.615,13.31 28.615,19.761 ; 28.869,12.294 28.869,11.786 34.635,11.786 34.635,12.294 ; 29.377,11.786 29.377,9.754 34.152,9.754 34.152,11.786 ; 29.377,13.31 29.377,19.761 34.152,19.761 34.152,13.31 ; 30.545,11.786 30.545,7.823 ; 30.85,7.823 30.85,9.754 ; 31.739,13.31 31.739,19.761 ; 32.679,7.823 32.679,9.754 ; 32.958,11.786 32.958,7.823 ; -32.952,7.823 -30.539,7.823 ; -32.952,7.823 -32.698,7.569 -30.793,7.569 -30.539,7.823 ; 30.545,7.823 30.799,7.569 32.704,7.569 32.958,7.823 ; 30.545,7.823 32.958,7.823
  text "1" at -26.189,8.645 h1.02

## CAN37V [mm]
pads (39):
  rect 1.6x1.6 hole 1: 1(0,0)
  round 1.6 hole 1: 2(-2.769,0) 3(-5.537,0) 4(-8.306,0) 5(-11.074,0) 6(-13.843,0) 7(-16.612,0) 8(-19.38,0) 9(-22.149,0) 10(-24.917,0) 11(-27.686,0) 12(-30.455,0) 13(-33.223,0) 14(-35.992,0) 15(-38.76,0) 16(-41.529,0) 17(-44.298,0) 18(-47.066,0) 19(-49.835,0) 20(-1.372,2.845) 21(-4.14,2.845) 22(-6.909,2.845) 23(-9.677,2.845) 24(-12.446,2.845) 25(-15.215,2.845) 26(-17.983,2.845) 27(-20.752,2.845) 28(-23.52,2.845) 29(-26.289,2.845) 30(-29.058,2.845) 31(-31.826,2.845) 32(-34.595,2.845) 33(-37.363,2.845) 34(-40.132,2.845) 35(-42.901,2.845) 36(-45.669,2.845) 37(-48.438,2.845)
  round 2.5 hole 2.5: 38(-56.667,1.422) 39(6.833,1.422)
Top Overlay:
  lines w0.25: -59.781,12.303 10.057,12.312 ; -59.781,13.328 10.057,13.318 ; -59.781,13.347 -59.773,-1.86 -53.474,-1.86 -53.476,12.284 ; -59.51,12.322 -59.519,11.856 -53.753,11.856 -53.747,12.264 ; -59.011,11.856 -59.011,9.824 -54.236,9.824 -54.236,11.856 ; -59.011,13.38 -59.011,19.831 -54.236,19.831 -54.236,13.38 ; -57.843,11.856 -57.843,7.893 ; -57.538,7.893 -57.538,9.824 ; -56.649,13.38 -56.649,19.831 ; -55.709,7.893 -55.709,9.824 ; -55.43,11.856 -55.43,7.893 ; -54.263,12.297 4.462,12.297 ; -53.495,7.816 3.747,7.855 ; -53.476,19.768 3.747,19.766 ; -53.476,19.788 -53.474,13.38 ; -51.316,7.823 -51.317,6.861 1.515,6.861 1.519,7.855 ; -51.308,6.858 -51.308,-1.397 -47.244,-1.397 1.524,-1.397 1.524,6.985 ; 3.758,12.334 3.758,-1.89 10.057,-1.89 10.057,13.298 ; 3.758,13.35 3.767,19.727 ; 4.012,12.334 4.012,11.826 9.778,11.826 9.778,12.334 ; 4.52,11.826 4.52,9.794 9.295,9.794 9.295,11.826 ; 4.52,13.35 4.52,19.801 9.295,19.801 9.295,13.35 ; 5.688,11.826 5.688,7.863 ; 5.993,7.863 5.993,9.794 ; 6.882,13.35 6.882,19.801 ; 7.822,7.863 7.822,9.794 ; 8.101,11.826 8.101,7.863 ; -57.843,7.893 -55.43,7.893 ; -57.843,7.893 -57.589,7.639 -55.684,7.639 -55.43,7.893 ; 5.688,7.863 8.101,7.863 ; 5.688,7.863 5.942,7.609 7.847,7.609 8.101,7.863
  text "1" at -0.939,8.545 h1.02
Mechanical 1:
  lines w0.25: -59.781,12.303 10.057,12.312 ; -59.781,13.328 10.057,13.318 ; -59.781,13.347 -59.773,-1.86 -53.474,-1.86 -53.476,12.284 ; -59.51,12.322 -59.519,11.856 -53.753,11.856 -53.747,12.264 ; -59.011,11.856 -59.011,9.824 -54.236,9.824 -54.236,11.856 ; -59.011,13.38 -59.011,19.831 -54.236,19.831 -54.236,13.38 ; -57.843,11.856 -57.843,7.893 ; -57.538,7.893 -57.538,9.824 ; -56.649,13.38 -56.649,19.831 ; -55.709,7.893 -55.709,9.824 ; -55.43,11.856 -55.43,7.893 ; -54.263,12.297 4.462,12.297 ; -53.495,7.816 3.747,7.855 ; -53.476,19.768 3.747,19.766 ; -53.476,19.788 -53.474,13.38 ; -51.316,7.823 -51.317,6.861 1.515,6.861 1.519,7.855 ; -49.849,0.253 -49.849,6.861 ; -48.447,3.007 -48.444,6.845 ; -47.083,0.253 -47.083,6.861 ; -45.666,3.023 -45.663,6.861 ; -44.302,0.253 -44.302,6.861 ; -42.901,3.023 -42.898,6.861 ; -41.536,0.269 -41.536,6.877 ; -40.119,3.007 -40.116,6.845 ; -38.771,0.253 -38.771,6.861 ; -37.353,3.023 -37.35,6.861 ; -35.974,0.253 -35.974,6.861 ; -34.556,3.023 -34.553,6.861 ; -33.223,0.253 -33.223,6.861 ; -31.822,3.023 -31.819,6.861 ; -30.473,0.253 -30.473,6.861 ; -29.056,3.023 -29.053,6.861 ; -27.676,0.253 -27.676,6.861 ; -26.306,3.023 -26.303,6.861 ; -24.926,0.253 -24.926,6.861 ; -23.525,3.007 -23.522,6.845 ; -22.129,0.237 -22.129,6.845 ; -20.743,3.007 -20.74,6.845 ; -19.395,0.253 -19.395,6.861 ; -17.978,3.008 -17.975,6.846 ; -16.597,0.237 -16.597,6.845 ; -15.228,3.023 -15.225,6.861 ; -13.832,0.253 -13.832,6.861 ; -12.446,3.008 -12.443,6.846 ; -11.081,0.253 -11.081,6.861 ; -9.697,3.023 -9.694,6.861 ; -8.316,0.237 -8.316,6.845 ; -6.899,2.991 -6.896,6.829 ; -5.519,0.253 -5.519,6.861 ; -4.118,3.007 -4.115,6.845 ; -2.769,0.269 -2.769,6.877 ; -1.399,2.991 -1.396,6.829 ; 0.012,0.253 0.012,6.861 ; 3.758,12.334 3.758,-1.89 10.057,-1.89 10.057,13.298 ; 3.758,13.35 3.767,19.727 ; 4.012,12.334 4.012,11.826 9.778,11.826 9.778,12.334 ; 4.52,11.826 4.52,9.794 9.295,9.794 9.295,11.826 ; 4.52,13.35 4.52,19.801 9.295,19.801 9.295,13.35 ; 5.688,11.826 5.688,7.863 ; 5.993,7.863 5.993,9.794 ; 6.882,13.35 6.882,19.801 ; 7.822,7.863 7.822,9.794 ; 8.101,11.826 8.101,7.863 ; -57.843,7.893 -55.43,7.893 ; -57.843,7.893 -57.589,7.639 -55.684,7.639 -55.43,7.893 ; 5.688,7.863 5.942,7.609 7.847,7.609 8.101,7.863 ; 5.688,7.863 8.101,7.863
  text "1" at -0.939,8.545 h1.02

## FB-6 [mm]
pads (6):
  rect 1.6x1.6 hole 1: 1(0,0)
  round 1.6 hole 1: 2(-2.54,0) 3(-5.08,0) 4(-7.62,0) 5(-10.16,0) 6(-12.7,0)
Top Overlay:
  lines w0.25: -16.637,-3.175 -16.637,1.397 -13.208,1.397 0.762,1.397 4.064,1.397 4.064,-3.175 0.762,-3.175 -13.081,-3.175 -16.637,-3.175 ; -0.254,-2.667 0.254,-2.667 0,-2.159 -0.254,-2.667
Mechanical 1:
  lines w0.25: -16.637,-3.175 -16.637,1.397 -13.208,1.397 0.762,1.397 4.064,1.397 4.064,-3.175 0.762,-3.175 -13.081,-3.175 -16.637,-3.175 ; -0.254,-2.667 0.254,-2.667 0,-2.159 -0.254,-2.667

## FB-8 [mm]
pads (8):
  rect 1.6x1.6 hole 1: 1(0,0)
  round 1.6 hole 1: 2(-2.54,0) 3(-5.08,0) 4(-7.62,0) 7(-15.24,0) 8(-17.78,0)
  round 1.524 hole 0.965: 5(-10.16,0) 6(-12.7,0)
Top Overlay:
  lines w0.25: 0.635,-3.175 -18.161,-3.175 -21.717,-3.175 -21.717,1.397 -18.288,1.397 0.762,1.397 4.064,1.397 4.064,-3.175 0.762,-3.175 ; -0.254,-2.667 0.254,-2.667 0,-2.159 -0.254,-2.667
Mechanical 1:
  lines w0.25: 0.635,-3.175 -18.161,-3.175 -21.717,-3.175 -21.717,1.397 -18.288,1.397 0.762,1.397 4.064,1.397 4.064,-3.175 0.762,-3.175 ; -0.254,-2.667 0.254,-2.667 0,-2.159 -0.254,-2.667

## GRPM31 [mm]
pads (33):
  rect 1.6x1.6 hole 1: 1(-26.25,3.15)
  round 1.6 hole 1: 2(-24.5,0) 3(-22.75,3.15) 4(-21,0) 5(-19.25,3.15) 6(-17.5,0) 7(-15.75,3.15) 8(-14,0) 9(-12.25,3.15) 10(-10.5,0) 11(-8.75,3.15) 12(-7,0) 13(-5.25,3.15) 14(-3.5,0) 15(-1.75,3.15) 16(0,0) 17(1.75,3.15) 18(3.5,0) 19(5.25,3.15) 20(7,0) 21(8.75,3.15) 22(10.5,0) 23(12.25,3.15) 24(14,0) 25(15.75,3.15) 26(17.5,0) 27(19.25,3.15) 28(21,0) 29(22.75,3.15) 30(24.5,0) 31(26.25,3.15)
  round 2.5 hole 2.5: 32(33.875,5.5) 33(-33.875,5.5)
Top Overlay:
  lines w0.25: -36.345,12.455 36.42,12.455 ; -36.34,12.46 -36.334,0.558 -29.73,0.558 -29.73,4.31 ; -29.73,4.325 30.075,4.325 ; 30.075,4.318 30.075,0.508 36.425,0.508 36.425,1.143 36.43,12.45
Mechanical 1:
  drawing of 172 lines, arcs and shapes, not listed

## GRPM61 [mm]
pads (63):
  rect 1.6x1.6 hole 1: 1(-52.5,3)
  round 1.6 hole 1: 2(-50.75,0) 3(-49,3) 4(-47.25,0) 5(-45.5,3) 6(-43.75,0) 7(-42,3) 8(-40.25,0) 9(-38.5,3) 10(-36.75,0) 11(-35,3) 12(-33.25,0) 13(-31.5,3) 14(-29.75,0) 15(-28,3) 16(-26.25,0) 17(-24.5,3) 18(-22.75,0) 19(-21,3) 20(-19.25,0) 21(-17.5,3) 22(-15.75,0) 23(-14,3) 24(-12.25,0) 25(-10.5,3) 26(-8.75,0) 27(-7,3) 28(-5.25,0) 29(-3.5,3) 30(-1.75,0) 31(0,3) 32(1.75,0) 33(3.5,3) 34(5.25,0) 35(7,3) 36(8.75,0) 37(10.5,3) 38(12.25,0) 39(14,3) 40(15.75,0) 41(17.5,3) 42(19.25,0) 43(21,3) 44(22.75,0) 45(24.5,3) 46(26.25,0) 47(28,3) 48(29.75,0) 49(31.5,3) 50(33.25,0) 51(35,3) 52(36.75,0) 53(38.5,3) 54(40.25,0) 55(42,3) 56(43.75,0) 57(45.5,3) 58(47.25,0) 59(49,3) 60(50.75,0) 61(52.5,3)
  round 2.5 hole 2.5: 62(60,5.5) 63(-60,5.5)
Top Overlay:
  lines w0.25: -55.769,4.27 -55.769,0.46 -62.373,0.46 -62.39,12.9 -10.2,12.92 ; -55.76,4.28 -3.75,4.25 ; -10.164,12.91 62.49,12.91 ; -3.81,4.27 56.25,4.25 ; 56.15,4.27 56.15,0.46 62.5,0.46 62.5,1.095 62.5,12.9
Mechanical 1:
  drawing of 263 lines, arcs and shapes, not listed